# EAGLE library part TPS65982ABZQZR (library power_module)
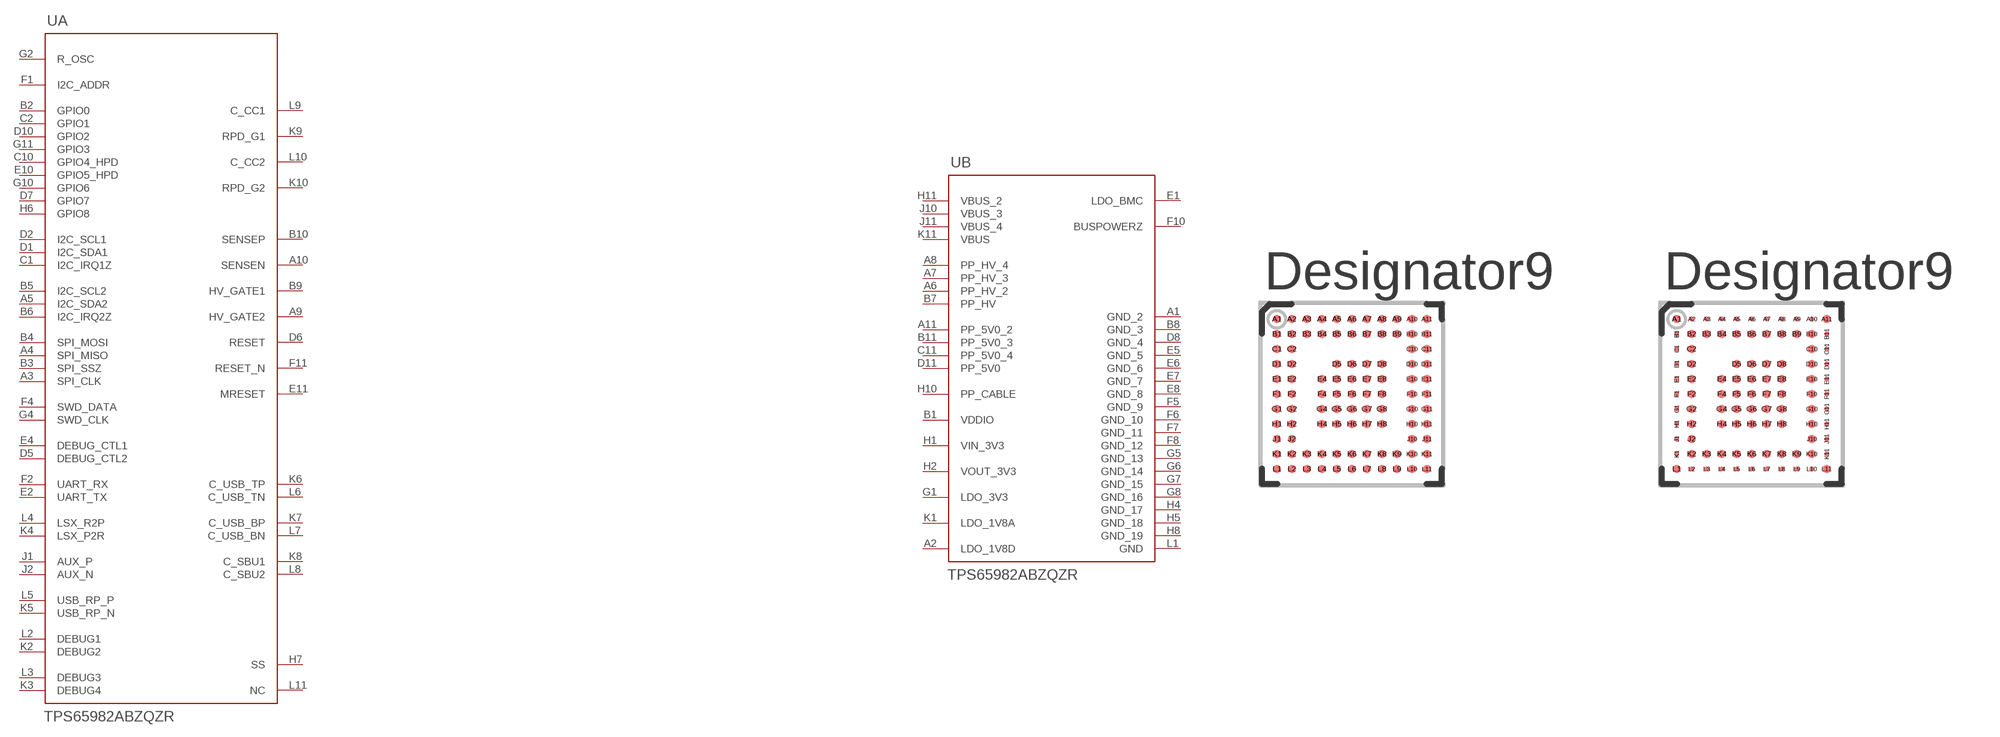
[diagram p3: symbol with the pads of ZQZ0096A; footprints ZQZ0096A, ZQZ0096A_OVAL]

Designator prefix U; gates A=TPS65982ZQZ_A B=TPS65982ZQZ_B

## TPS65982ABZQZR  [ZQZ0096A]
A1  B:GND_2  pwr
A2  B:LDO_1V8D  pwr
A3  A:SPI_CLK  out
A4  A:SPI_MISO  in
A5  A:I2C_SDA2
A6  B:PP_HV_2  pwr
A7  B:PP_HV_3  pwr
A8  B:PP_HV_4  pwr
A9  A:HV_GATE2  out
A10  A:SENSEN  in
A11  B:PP_5V0_2  pwr
B1  B:VDDIO  pwr
B2  A:GPIO0
B3  A:SPI_SSZ  out
B4  A:SPI_MOSI  out
B5  A:I2C_SCL2
B6  A:I2C_IRQ2Z  oc
B7  B:PP_HV  pwr
B8  B:GND_3  pwr
B9  A:HV_GATE1  out
B10  A:SENSEP  in
B11  B:PP_5V0_3  pwr
C1  A:I2C_IRQ1Z  oc
C2  A:GPIO1
C10  A:GPIO4_HPD
C11  B:PP_5V0_4  pwr
D1  A:I2C_SDA1
D2  A:I2C_SCL1
D5  A:DEBUG_CTL2
D6  A:RESET
D7  A:GPIO7
D8  B:GND_4  pwr
D10  A:GPIO2
D11  B:PP_5V0  pwr
E1  B:LDO_BMC  pwr
E2  A:UART_TX  out
E4  A:DEBUG_CTL1
E5  B:GND_5  pwr
E6  B:GND_6  pwr
E7  B:GND_7  pwr
E8  B:GND_8  pwr
E10  A:GPIO5_HPD
E11  A:MRESET
F1  A:I2C_ADDR
F2  A:UART_RX  in
F4  A:SWD_DATA
F5  B:GND_9  pwr
F6  B:GND_10  pwr
F7  B:GND_11  pwr
F8  B:GND_12  pwr
F10  B:BUSPOWERZ  pwr
F11  A:RESET_N
G1  B:LDO_3V3  pwr
G2  A:R_OSC
G4  A:SWD_CLK  in
G5  B:GND_13  pwr
G6  B:GND_14  pwr
G7  B:GND_15  pwr
G8  B:GND_16  pwr
G10  A:GPIO6
G11  A:GPIO3
H1  B:VIN_3V3  pwr
H2  B:VOUT_3V3  pwr
H4  B:GND_17  pwr
H5  B:GND_18  pwr
H6  A:GPIO8
H7  A:SS  in
H8  B:GND_19  pwr
H10  B:PP_CABLE  pwr
H11  B:VBUS_2  pwr
J1  A:AUX_P
J2  A:AUX_N
J10  B:VBUS_3  pwr
J11  B:VBUS_4  pwr
K1  B:LDO_1V8A  pwr
K2  A:DEBUG2
K3  A:DEBUG4
K4  A:LSX_P2R  out
K5  A:USB_RP_N
K6  A:C_USB_TP
K7  A:C_USB_BP
K8  A:C_SBU1
K9  A:RPD_G1
K10  A:RPD_G2
K11  B:VBUS  pwr
L1  B:GND  pwr
L2  A:DEBUG1
L3  A:DEBUG3
L4  A:LSX_R2P  in
L5  A:USB_RP_P
L6  A:C_USB_TN
L7  A:C_USB_BN
L8  A:C_SBU2
L9  A:C_CC1
L10  A:C_CC2
L11  A:NC  pas

## TPS65982ABZQZRZQZ0096A_OVAL  [ZQZ0096A_OVAL]
Pads as for ZQZ0096A

## Footprint ZQZ0096A (pad centres in mm)
smd 0.275 x 0.275: A1 -2.5,2.5; A2 -2,2.5; A3 -1.5,2.5; A4 -1,2.5; A5 -0.5,2.5; A6 0,2.5; A7 0.5,2.5; A8 1,2.5; A9 1.5,2.5; A10 2,2.5; A11 2.5,2.5; B1 -2.5,2; B2 -2,2; B3 -1.5,2; B4 -1,2; B5 -0.5,2; B6 0,2; B7 0.5,2; B8 1,2; B9 1.5,2; B10 2,2; B11 2.5,2; C1 -2.5,1.5; C2 -2,1.5; C10 2,1.5; C11 2.5,1.5; D1 -2.5,1; D2 -2,1; D5 -0.5,1; D6 0,1; D7 0.5,1; D8 1,1; D10 2,1; D11 2.5,1; E1 -2.5,0.5; E2 -2,0.5; E4 -1,0.5; E5 -0.5,0.5; E6 0,0.5; E7 0.5,0.5; E8 1,0.5; E10 2,0.5; E11 2.5,0.5; F1 -2.5,0; F2 -2,0; F4 -1,0; F5 -0.5,0; F6 0,0; F7 0.5,0; F8 1,0; F10 2,0; F11 2.5,0; G1 -2.5,-0.5; G2 -2,-0.5; G4 -1,-0.5; G5 -0.5,-0.5; G6 0,-0.5; G7 0.5,-0.5; G8 1,-0.5; G10 2,-0.5; G11 2.5,-0.5; H1 -2.5,-1; H2 -2,-1; H4 -1,-1; H5 -0.5,-1; H6 0,-1; H7 0.5,-1; H8 1,-1; H10 2,-1; H11 2.5,-1; J1 -2.5,-1.5; J2 -2,-1.5; J10 2,-1.5; J11 2.5,-1.5; K1 -2.5,-2; K2 -2,-2; K3 -1.5,-2; K4 -1,-2; K5 -0.5,-2; K6 0,-2; K7 0.5,-2; K8 1,-2; K9 1.5,-2; K10 2,-2; K11 2.5,-2; L1 -2.5,-2.5; L2 -2,-2.5; L3 -1.5,-2.5; L4 -1,-2.5; L5 -0.5,-2.5; L6 0,-2.5; L7 0.5,-2.5; L8 1,-2.5; L9 1.5,-2.5; L10 2,-2.5; L11 2.5,-2.5

## Footprint ZQZ0096A_OVAL (pad centres in mm)
smd 0.275 x 0.275: A1 -2.5,2.5; A11 2.5,2.5; B2 -2,2; B3 -1.5,2; B4 -1,2; B5 -0.5,2; B6 0,2; B7 0.5,2; B8 1,2; B9 1.5,2; B10 2,2; C2 -2,1.5; C10 2,1.5; D2 -2,1; D5 -0.5,1; D6 0,1; D7 0.5,1; D8 1,1; D10 2,1; E2 -2,0.5; E4 -1,0.5; E5 -0.5,0.5; E6 0,0.5; E7 0.5,0.5; E8 1,0.5; E10 2,0.5; F2 -2,0; F4 -1,0; F5 -0.5,0; F6 0,0; F7 0.5,0; F8 1,0; F10 2,0; G2 -2,-0.5; G4 -1,-0.5; G5 -0.5,-0.5; G6 0,-0.5; G7 0.5,-0.5; G8 1,-0.5; G10 2,-0.5; H2 -2,-1; H4 -1,-1; H5 -0.5,-1; H6 0,-1; H7 0.5,-1; H8 1,-1; H10 2,-1; J2 -2,-1.5; J10 2,-1.5; K2 -2,-2; K3 -1.5,-2; K4 -1,-2; K5 -0.5,-2; K6 0,-2; K7 0.5,-2; K8 1,-2; K9 1.5,-2; K10 2,-2; L1 -2.5,-2.5; L11 2.5,-2.5
smd 0.178 x 0.152: A2 -2,2.5; A3 -1.5,2.5; A4 -1,2.5; A5 -0.5,2.5; A6 0,2.5; A7 0.5,2.5; A8 1,2.5; A9 1.5,2.5; A10 2,2.5; L2 -2,-2.5; L3 -1.5,-2.5; L4 -1,-2.5; L5 -0.5,-2.5; L6 0,-2.5; L7 0.5,-2.5; L8 1,-2.5; L9 1.5,-2.5; L10 2,-2.5
smd 0.152 x 0.178: B1 -2.5,2; B11 2.5,2; C1 -2.5,1.5; C11 2.5,1.5; D1 -2.5,1; D11 2.5,1; E1 -2.5,0.5; E11 2.5,0.5; F1 -2.5,0; F11 2.5,0; G1 -2.5,-0.5; G11 2.5,-0.5; H1 -2.5,-1; H11 2.5,-1; J1 -2.5,-1.5; J11 2.5,-1.5; K1 -2.5,-2; K11 2.5,-2